# Altium footprint library B82462G4.PcbLib: 1 footprints
Each footprint in its own frame and in the unit in brackets; x right, y up, seen from the top. Pads: shape width x height; smd on the part's side, far side on the other; paste and mask are expansions set on the pad; w line width, h text height; cw(c..) or ccw(c..) is an arc to the next point about the centre after c.
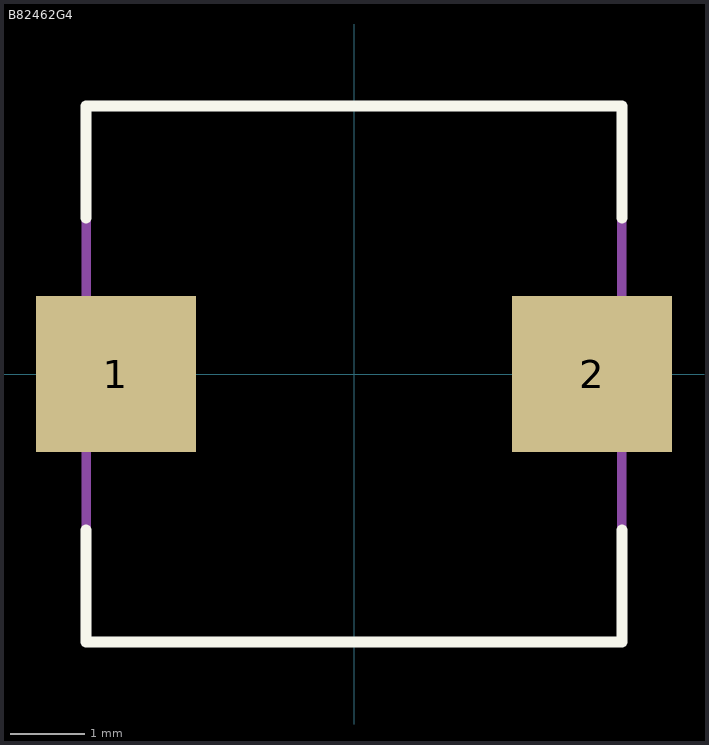
[diagram p0: the footprint, top view; thin cyan lines are the x and y axes]

## B82462G4 [mm]
pads (2):
  rect 2.15x2.1 smd: 1(-3.2,0) 2(3.2,0)
Top Overlay:
  lines w0.15: -3.6,-2.1 -3.6,-3.6 3.6,-3.6 3.6,-2.1 ; -3.6,2.1 -3.6,3.6 3.6,3.6 3.6,2.1
Mechanical 13:
  lines w0.127: -3.6,-3.6 -3.6,3.6 3.6,3.6 3.6,-3.6 -3.6,-3.6
3D body: height 4.1, standoff 0, extent -3.6,-3.6 3.6,3.6